# Altium footprint library Diodes_old.PcbLib: 20 footprints (part 2 of 2)
Each footprint in its own frame and in the unit in brackets; x right, y up, seen from the top. Pads: shape width x height; smd on the part's side, far side on the other; paste and mask are expansions set on the pad; w line width, h text height; cw(c..) or ccw(c..) is an arc to the next point about the centre after c.
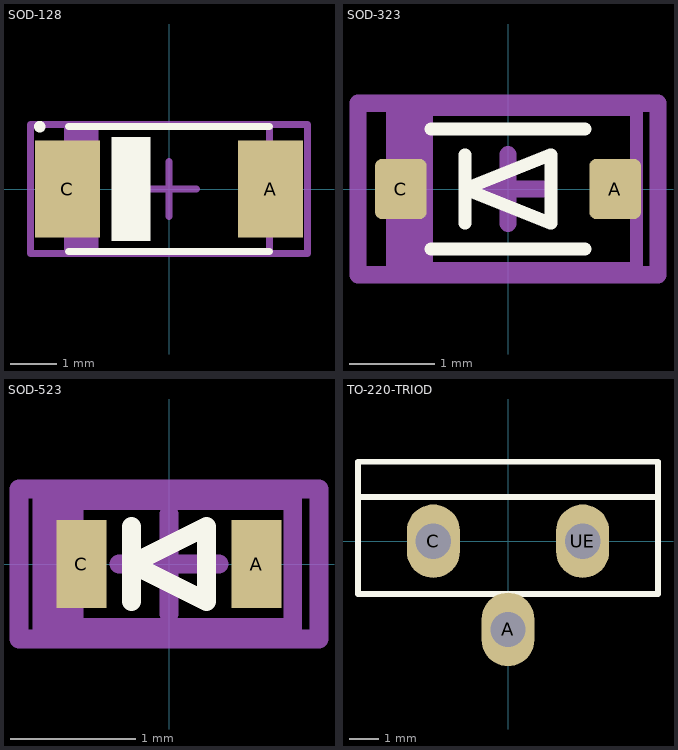
[diagram p1: the footprints below, top view; thin cyan lines are the x and y axes]

## SOD-128 [mm] "SOD128, 2-Leads, Body 2,50x4,70mm, IPC Medium Density"
height 1.1
pads (2):
  rect 1.4x2.1 smd: A(2.2,0) C(-2.2,0)
Top Overlay:
  circle w0.15: c-2.8,1.35 r0.05
  rectangle: -1.25,-1.125 -0.4,1.125
  lines w0.15: -2.175,-1.35 0,-1.35 2.175,-1.35 ; -2.175,1.35 0,1.35 2.175,1.35
Mechanical 15:
  lines w0.15: -0.6,0 0.6,0 ; 0,-0.6 0,0.6 ; -3,-1.4 3,-1.4 3,1.4 -3,1.4 -3,-1.4
Mechanical 29:
  rectangle: -2.2,-1.375 -1.525,1.375
  lines w0.15: -2.2,-1.35 2.175,-1.35 2.175,1.35 -2.2,1.35 -2.2,-1.35
3D body "SOD128.STEP": height 1.1, standoff -0.01, extent -2.5,-1.35 2.5,1.35

## SOD-323 [mm] "SOD-323; 2 Leads; Body 1.8 x 1.35 mm, (LxW)"
height 1.15
pads (2):
  rrect25% 0.6x0.7 smd: A(1.25,0) C(-1.25,0)
Top Overlay:
  lines w0.15: -0.9,-0.7 0.9,-0.7 ; -0.9,0.7 0.9,0.7 ; -0.5,-0.4 -0.5,0.4 ; -0.5,0 0.5,-0.4 0.5,0.4 -0.5,0
Top Assembly (Mech3):
  rectangle: -1.35,-0.925 -0.875,0.925
  lines w0.15: -1.35,-0.925 -1.35,0.925 1.5,0.925 1.5,-0.925 -1.35,-0.925
Top Courtyard:
  lines w0.2: -0.4,0 0.4,0 ; 0,-0.4 0,0.4 ; -1.75,-1 -1.75,1 1.75,1 1.75,-1 -1.75,-1
3D body "SOD323.STEP": height 1.1, standoff 0, extent -1.3,-0.675 1.3,0.675

## SOD-523 [mm] "SODFL, 2-Leads, Body 0,80x1,60mm, IPC Medium Density"
height 0.65
pads (2):
  rect 0.4x0.7 smd: A(0.7,0) C(-0.7,0)
Top Overlay:
  lines w0.15: -0.3,-0.3 -0.3,0.3 ; -0.3,0 0.3,0.3 0.3,-0.3 -0.3,0
  text "." at -1.2,0.6 h0.1
Mechanical 15:
  lines w0.15: -0.4,0 0.4,0 ; 0,-0.4 0,0.4 ; -1.2,-0.6 1.2,-0.6 1.2,0.6 -1.2,0.6 -1.2,-0.6
Mechanical 29:
  rectangle: -1.016,-0.508 -0.686,0.508
  lines w0.15: -1.016,-0.508 0.991,-0.508 0.991,0.508 -1.016,0.508 -1.016,-0.508
3D body "SOD523.STEP": height 0.65, standoff 0, extent -0.825,-0.4 0.825,0.4

## TO-220-TRIOD [mm]
pads (3):
  oval 1.8x2.5 hole 1.2: A(0,-3) C(-2.54,0) UE(2.54,0)
Top Overlay:
  lines w0.2: -5.1,1.5 5.1,1.5 ; -5.1,-1.8 5.1,-1.8 5.1,2.7 -5.1,2.7 -5.1,-1.8
Mechanical 29:
  lines w0.1: 5.1,1.5 -5.1,1.5 -5.1,2.7 ; -5.1,2.7 -5.1,-1.8 5.1,-1.8 5.1,2.7 -5.1,2.7
  text ".Designator" at -3.5,-0.6 h1
3D body "TO-220-4.STEP": height 25.06, standoff -3.74, extent -5.1,-1.8 5.1,2.7